# Altium footprint library Package_CSP.PcbLib: 178 footprints (part 5 of 12)
Each footprint in its own frame and in the unit in brackets; x right, y up, seen from the top. Pads: shape width x height; smd on the part's side, far side on the other; paste and mask are expansions set on the pad; w line width, h text height; cw(c..) or ccw(c..) is an arc to the next point about the centre after c.
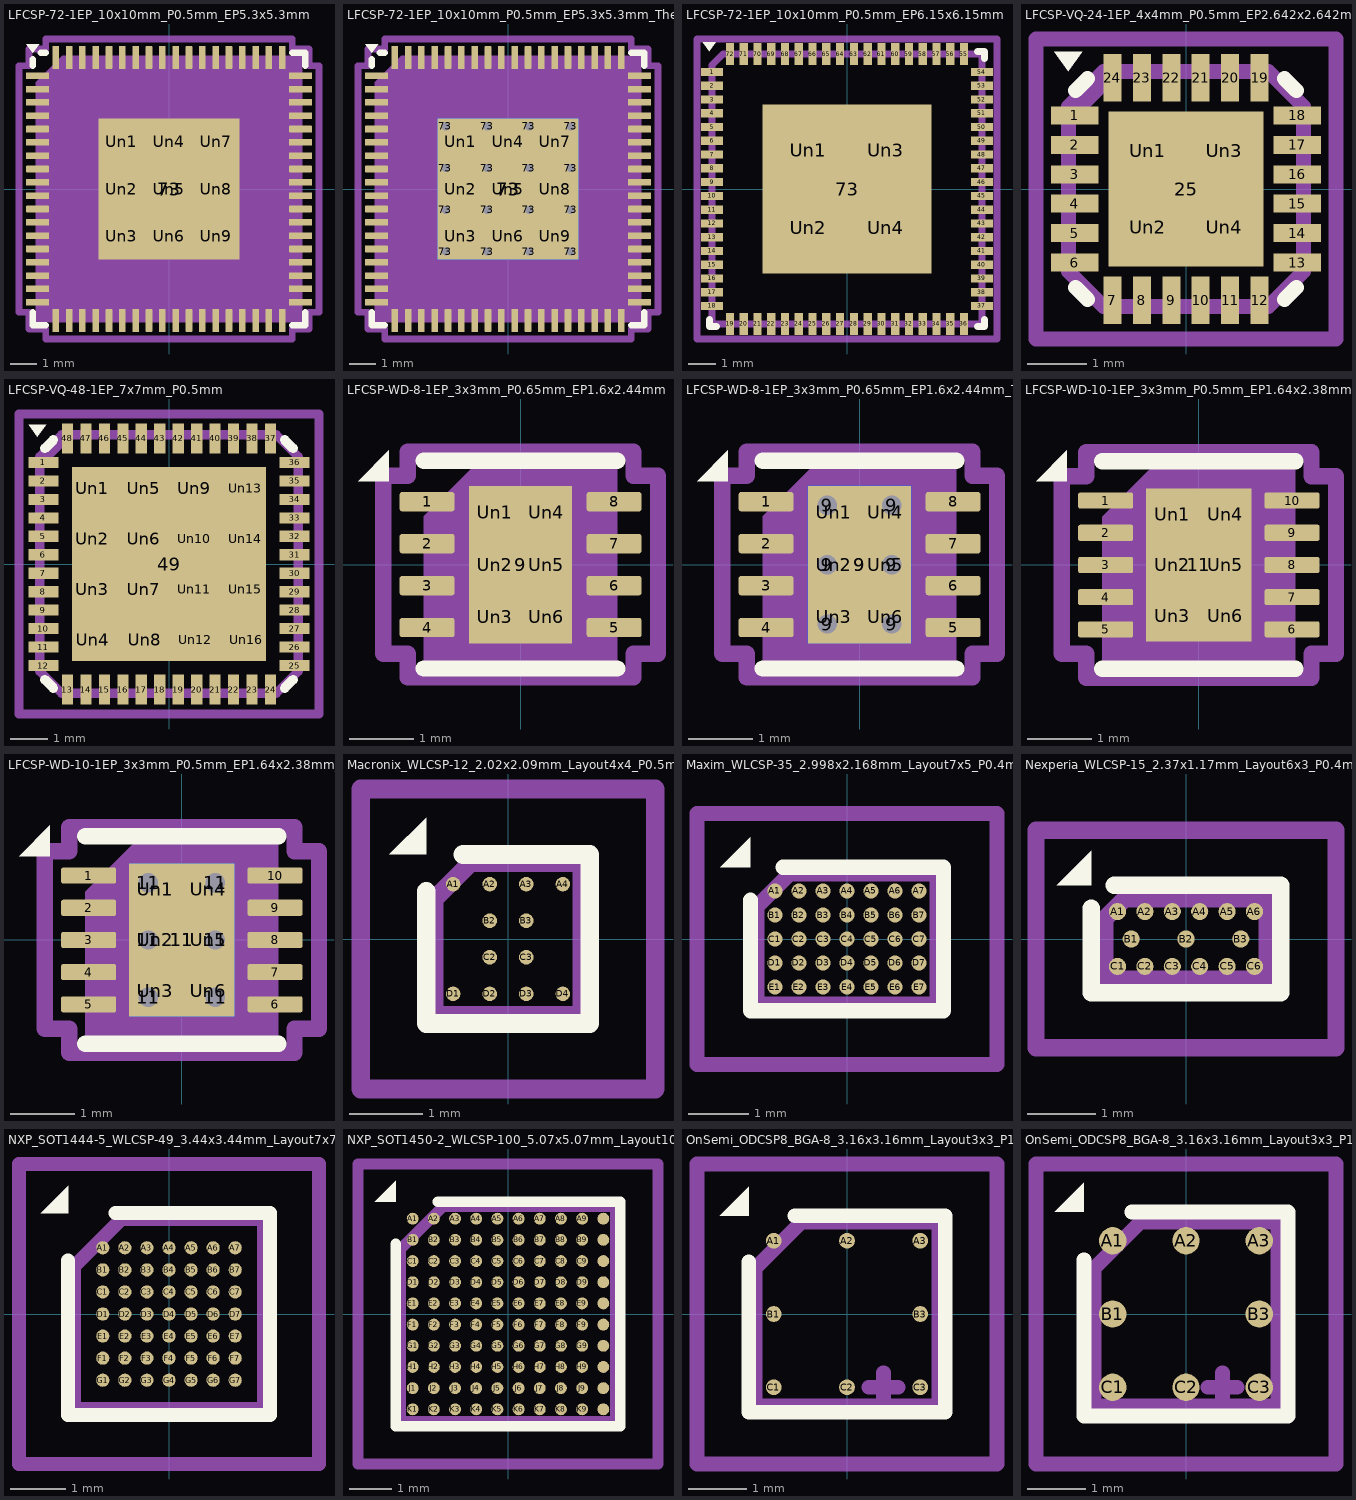
[diagram p4: the footprints below, top view; thin cyan lines are the x and y axes]

## LFCSP-72-1EP_10x10mm_P0.5mm_EP5.3x5.3mm [mm]
pads (82):
  rrect25% 0.875x0.25 smd: 1(-4.938,4.25) 2(-4.938,3.75) 3(-4.938,3.25) 4(-4.938,2.75) 5(-4.938,2.25) 6(-4.938,1.75) 7(-4.938,1.25) 8(-4.938,0.75) 9(-4.938,0.25) 10(-4.938,-0.25) 11(-4.938,-0.75) 12(-4.938,-1.25) 13(-4.938,-1.75) 14(-4.938,-2.25) 15(-4.938,-2.75) 16(-4.938,-3.25) 17(-4.938,-3.75) 18(-4.938,-4.25) 37(4.938,-4.25) 38(4.938,-3.75) 39(4.938,-3.25) 40(4.938,-2.75) 41(4.938,-2.25) 42(4.938,-1.75) 43(4.938,-1.25) 44(4.938,-0.75) 45(4.938,-0.25) 46(4.938,0.25) 47(4.938,0.75) 48(4.938,1.25) 49(4.938,1.75) 50(4.938,2.25) 51(4.938,2.75) 52(4.938,3.25) 53(4.938,3.75) 54(4.938,4.25)
  rrect25% 0.25x0.875 smd: 19(-4.25,-4.938) 20(-3.75,-4.938) 21(-3.25,-4.938) 22(-2.75,-4.938) 23(-2.25,-4.938) 24(-1.75,-4.938) 25(-1.25,-4.938) 26(-0.75,-4.938) 27(-0.25,-4.938) 28(0.25,-4.938) 29(0.75,-4.938) 30(1.25,-4.938) 31(1.75,-4.938) 32(2.25,-4.938) 33(2.75,-4.938) 34(3.25,-4.938) 35(3.75,-4.938) 36(4.25,-4.938) 55(4.25,4.938) 56(3.75,4.938) 57(3.25,4.938) 58(2.75,4.938) 59(2.25,4.938) 60(1.75,4.938) 61(1.25,4.938) 62(0.75,4.938) 63(0.25,4.938) 64(-0.25,4.938) 65(-0.75,4.938) 66(-1.25,4.938) 67(-1.75,4.938) 68(-2.25,4.938) 69(-2.75,4.938) 70(-3.25,4.938) 71(-3.75,4.938) 72(-4.25,4.938)
  rect 5.3x5.3 smd: 73(0,0)
  rrect18% 1.42x1.42 on Top Paste: Un1(-1.77,1.77) Un2(-1.77,0) Un3(-1.77,-1.77) Un4(0,1.77) Un5(0,0) Un6(0,-1.77) Un7(1.77,1.77) Un8(1.77,0) Un9(1.77,-1.77)
F.SilkS:
  region: -5.11,5.11 -5.35,5.44 -4.87,5.44
  lines w0.254: -5.11,-4.635 -5.11,-5.11 -4.635,-5.11 ; -5.11,4.635 -5.11,4.87 ; -4.81,5.11 -4.635,5.11 ; 4.635,-5.11 5.11,-5.11 5.11,-4.635 ; 4.635,5.11 5.11,5.11 5.11,4.635
Top Assembly:
  region: 5,-5 -5,-5 -5,4 -4,5 5,5
  text "'.Designator'" at -4.047,-0.84 h1
Top Courtyard:
  lines w0.254: -5.63,-4.63 -5.25,-4.63 -5.25,-5.25 -4.63,-5.25 -4.63,-5.63 4.63,-5.63 4.63,-5.25 5.25,-5.25 5.25,-4.63 5.63,-4.63 5.63,4.63 5.25,4.63 5.25,5.25 4.63,5.25 4.63,5.63 -4.63,5.63 -4.63,5.25 -5.25,5.25 -5.25,4.63 -5.63,4.63 -5.63,-4.63
Top Designator:
  text ".Designator" at -7.618,-0.508 h1.52

## LFCSP-72-1EP_10x10mm_P0.5mm_EP5.3x5.3mm_ThermalVias [mm]
pads (99):
  rrect25% 0.875x0.25 smd: 1(-4.938,4.25) 2(-4.938,3.75) 3(-4.938,3.25) 4(-4.938,2.75) 5(-4.938,2.25) 6(-4.938,1.75) 7(-4.938,1.25) 8(-4.938,0.75) 9(-4.938,0.25) 10(-4.938,-0.25) 11(-4.938,-0.75) 12(-4.938,-1.25) 13(-4.938,-1.75) 14(-4.938,-2.25) 15(-4.938,-2.75) 16(-4.938,-3.25) 17(-4.938,-3.75) 18(-4.938,-4.25) 37(4.938,-4.25) 38(4.938,-3.75) 39(4.938,-3.25) 40(4.938,-2.75) 41(4.938,-2.25) 42(4.938,-1.75) 43(4.938,-1.25) 44(4.938,-0.75) 45(4.938,-0.25) 46(4.938,0.25) 47(4.938,0.75) 48(4.938,1.25) 49(4.938,1.75) 50(4.938,2.25) 51(4.938,2.75) 52(4.938,3.25) 53(4.938,3.75) 54(4.938,4.25)
  rrect25% 0.25x0.875 smd: 19(-4.25,-4.938) 20(-3.75,-4.938) 21(-3.25,-4.938) 22(-2.75,-4.938) 23(-2.25,-4.938) 24(-1.75,-4.938) 25(-1.25,-4.938) 26(-0.75,-4.938) 27(-0.25,-4.938) 28(0.25,-4.938) 29(0.75,-4.938) 30(1.25,-4.938) 31(1.75,-4.938) 32(2.25,-4.938) 33(2.75,-4.938) 34(3.25,-4.938) 35(3.75,-4.938) 36(4.25,-4.938) 55(4.25,4.938) 56(3.75,4.938) 57(3.25,4.938) 58(2.75,4.938) 59(2.25,4.938) 60(1.75,4.938) 61(1.25,4.938) 62(0.75,4.938) 63(0.25,4.938) 64(-0.25,4.938) 65(-0.75,4.938) 66(-1.25,4.938) 67(-1.75,4.938) 68(-2.25,4.938) 69(-2.75,4.938) 70(-3.25,4.938) 71(-3.75,4.938) 72(-4.25,4.938)
  round 0.6 hole 0.3: 73(-2.35,-2.35) 73(-2.35,-0.783) 73(-2.35,0.783) 73(-2.35,2.35) 73(-0.783,-2.35) 73(-0.783,-0.783) 73(-0.783,0.783) 73(-0.783,2.35) 73(0.783,-2.35) 73(0.783,-0.783) 73(0.783,0.783) 73(0.783,2.35) 73(2.35,-2.35) 73(2.35,-0.783) 73(2.35,0.783) 73(2.35,2.35)
  rect 5.3x5.3 smd: 73(0,0)
  rect 5.3x5.3 smd far side: 73(0,0)
  rrect18% 1.42x1.42 on Top Paste: Un1(-1.77,1.77) Un2(-1.77,0) Un3(-1.77,-1.77) Un4(0,1.77) Un5(0,0) Un6(0,-1.77) Un7(1.77,1.77) Un8(1.77,0) Un9(1.77,-1.77)
F.SilkS:
  region: -5.11,5.11 -5.35,5.44 -4.87,5.44
  lines w0.254: -5.11,-4.635 -5.11,-5.11 -4.635,-5.11 ; -5.11,4.635 -5.11,4.87 ; -4.81,5.11 -4.635,5.11 ; 4.635,-5.11 5.11,-5.11 5.11,-4.635 ; 4.635,5.11 5.11,5.11 5.11,4.635
Top Assembly:
  region: 5,-5 -5,-5 -5,4 -4,5 5,5
  text "'.Designator'" at -4.047,-0.84 h1
Top Courtyard:
  lines w0.254: -5.63,-4.63 -5.25,-4.63 -5.25,-5.25 -4.63,-5.25 -4.63,-5.63 4.63,-5.63 4.63,-5.25 5.25,-5.25 5.25,-4.63 5.63,-4.63 5.63,4.63 5.25,4.63 5.25,5.25 4.63,5.25 4.63,5.63 -4.63,5.63 -4.63,5.25 -5.25,5.25 -5.25,4.63 -5.63,4.63 -5.63,-4.63
Top Designator:
  text ".Designator" at -7.618,-0.508 h1.52

## LFCSP-72-1EP_10x10mm_P0.5mm_EP6.15x6.15mm [mm]
pads (77):
  rect 0.8x0.3 smd: 1(-4.9,4.25) 2(-4.9,3.75) 3(-4.9,3.25) 4(-4.9,2.75) 5(-4.9,2.25) 6(-4.9,1.75) 7(-4.9,1.25) 8(-4.9,0.75) 9(-4.9,0.25) 10(-4.9,-0.25) 11(-4.9,-0.75) 12(-4.9,-1.25) 13(-4.9,-1.75) 14(-4.9,-2.25) 15(-4.9,-2.75) 16(-4.9,-3.25) 17(-4.9,-3.75) 18(-4.9,-4.25) 37(4.9,-4.25) 38(4.9,-3.75) 39(4.9,-3.25) 40(4.9,-2.75) 41(4.9,-2.25) 42(4.9,-1.75) 43(4.9,-1.25) 44(4.9,-0.75) 45(4.9,-0.25) 46(4.9,0.25) 47(4.9,0.75) 48(4.9,1.25) 49(4.9,1.75) 50(4.9,2.25) 51(4.9,2.75) 52(4.9,3.25) 53(4.9,3.75) 54(4.9,4.25)
  rect 0.3x0.8 smd: 19(-4.25,-4.9) 20(-3.75,-4.9) 21(-3.25,-4.9) 22(-2.75,-4.9) 23(-2.25,-4.9) 24(-1.75,-4.9) 25(-1.25,-4.9) 26(-0.75,-4.9) 27(-0.25,-4.9) 28(0.25,-4.9) 29(0.75,-4.9) 30(1.25,-4.9) 31(1.75,-4.9) 32(2.25,-4.9) 33(2.75,-4.9) 34(3.25,-4.9) 35(3.75,-4.9) 36(4.25,-4.9) 55(4.25,4.9) 56(3.75,4.9) 57(3.25,4.9) 58(2.75,4.9) 59(2.25,4.9) 60(1.75,4.9) 61(1.25,4.9) 62(0.75,4.9) 63(0.25,4.9) 64(-0.25,4.9) 65(-0.75,4.9) 66(-1.25,4.9) 67(-1.75,4.9) 68(-2.25,4.9) 69(-2.75,4.9) 70(-3.25,4.9) 71(-3.75,4.9) 72(-4.25,4.9)
  rect 6.15x6.15 smd: 73(0,0)
  rect 2.5x2.5 on Top Paste: Un1(-1.4,1.4) Un2(-1.4,-1.4) Un3(1.4,1.4) Un4(1.4,-1.4)
F.SilkS:
  region: -5,5.005 -5.24,5.335 -4.76,5.335
  lines w0.254: -5,-4.75 -5,-5 -4.75,-5 ; 4.75,-5 5,-5 5,-4.75 ; 4.75,5 5,5 5,4.75
Top Assembly:
  lines w0.254: -4.9,-4.9 4.9,-4.9 4.9,4.9 -4.5,4.9 -4.9,4.5 -4.9,-4.9
  text "'.Designator'" at -4.047,-0.84 h1
Top Courtyard:
  lines w0.254: -5.45,-5.45 5.45,-5.45 5.45,5.45 -5.45,5.45 -5.45,-5.45
Top Designator:
  text ".Designator" at -7.618,-0.508 h1.52

## LFCSP-VQ-24-1EP_4x4mm_P0.5mm_EP2.642x2.642mm [mm]
pads (29):
  rect 0.813x0.305 smd: 1(-1.893,1.25) 2(-1.893,0.75) 3(-1.893,0.25) 4(-1.893,-0.25) 5(-1.893,-0.75) 6(-1.893,-1.25) 13(1.893,-1.25) 14(1.893,-0.75) 15(1.893,-0.25) 16(1.893,0.25) 17(1.893,0.75) 18(1.893,1.25)
  rect 0.305x0.813 smd: 7(-1.25,-1.893) 8(-0.75,-1.893) 9(-0.25,-1.893) 10(0.25,-1.893) 11(0.75,-1.893) 12(1.25,-1.893) 19(1.25,1.893) 20(0.75,1.893) 21(0.25,1.893) 22(-0.25,1.893) 23(-0.75,1.893) 24(-1.25,1.893)
  rect 2.642x2.642 smd: 25(0,0)
  rect 1.05x1.05 on Top Paste: Un1(-0.65,0.65) Un2(-0.65,-0.65) Un3(0.65,0.65) Un4(0.65,-0.65)
F.SilkS:
  region: -2,2 -2.24,2.33 -1.76,2.33
  lines w0.254: -1.875,-1.675 -1.675,-1.875 ; -1.875,1.675 -1.675,1.875 ; 1.675,-1.875 1.875,-1.675 ; 1.675,1.875 1.875,1.675
Top Assembly:
  lines w0.254: -2,1.2 -1.2,2 ; -2,-1.4 -1.4,-2 1.4,-2 2,-1.4 2,1.4 1.4,2 -1.4,2 -2,1.4 -2,-1.4
  text "'.Designator'" at -4.047,-0.84 h1
Top Courtyard:
  lines w0.254: -2.55,-2.55 2.55,-2.55 2.55,2.55 -2.55,2.55 -2.55,-2.55
Top Designator:
  text ".Designator" at -7.768,-0.508 h1.52

## LFCSP-VQ-48-1EP_7x7mm_P0.5mm [mm]
pads (65):
  rect 0.81x0.3 smd: 1(-3.4,2.75) 2(-3.4,2.25) 3(-3.4,1.75) 4(-3.4,1.25) 5(-3.4,0.75) 6(-3.4,0.25) 7(-3.4,-0.25) 8(-3.4,-0.75) 9(-3.4,-1.25) 10(-3.4,-1.75) 11(-3.4,-2.25) 12(-3.4,-2.75) 25(3.4,-2.75) 26(3.4,-2.25) 27(3.4,-1.75) 28(3.4,-1.25) 29(3.4,-0.75) 30(3.4,-0.25) 31(3.4,0.25) 32(3.4,0.75) 33(3.4,1.25) 34(3.4,1.75) 35(3.4,2.25) 36(3.4,2.75)
  rect 0.3x0.81 smd: 13(-2.75,-3.4) 14(-2.25,-3.4) 15(-1.75,-3.4) 16(-1.25,-3.4) 17(-0.75,-3.4) 18(-0.25,-3.4) 19(0.25,-3.4) 20(0.75,-3.4) 21(1.25,-3.4) 22(1.75,-3.4) 23(2.25,-3.4) 24(2.75,-3.4) 37(2.75,3.4) 38(2.25,3.4) 39(1.75,3.4) 40(1.25,3.4) 41(0.75,3.4) 42(0.25,3.4) 43(-0.25,3.4) 44(-0.75,3.4) 45(-1.25,3.4) 46(-1.75,3.4) 47(-2.25,3.4) 48(-2.75,3.4)
  rect 5.26x5.26 smd: 49(0,0)
  rrect23% 1.1x1.1 on Top Paste: Un1(-2.08,2.05) Un2(-2.08,0.68) Un3(-2.08,-0.69) Un4(-2.06,-2.05) Un5(-0.68,2.05) Un6(-0.68,0.68) Un7(-0.68,-0.69) Un8(-0.66,-2.05) Un9(0.69,2.05) Un10(0.69,0.68) Un11(0.69,-0.69) Un12(0.71,-2.05) Un13(2.07,2.05) Un14(2.07,0.68) Un15(2.07,-0.69) Un16(2.09,-2.05)
F.SilkS:
  region: -3.56,3.44 -3.8,3.77 -3.32,3.77
  lines w0.254: -3.36,-3.13 -3.13,-3.36 ; -3.36,3.13 -3.13,3.36 ; 3.13,-3.36 3.36,-3.13 ; 3.13,3.36 3.36,3.13
Top Assembly:
  lines w0.254: -3.5,2.7 -2.7,3.5 ; -3.5,-2.9 -2.9,-3.5 2.9,-3.5 3.5,-2.9 3.5,2.9 2.9,3.5 -2.9,3.5 -3.5,2.9 -3.5,-2.9
  text "'.Designator'" at -4.047,-0.84 h1
Top Courtyard:
  lines w0.254: -4.06,-4.06 4.06,-4.06 4.06,4.06 -4.06,4.06 -4.06,-4.06
Top Designator:
  text ".Designator" at -7.622,-0.508 h1.52

## LFCSP-WD-8-1EP_3x3mm_P0.65mm_EP1.6x2.44mm [mm]
pads (15):
  rrect25% 0.85x0.3 smd: 1(-1.45,0.975) 2(-1.45,0.325) 3(-1.45,-0.325) 4(-1.45,-0.975) 5(1.45,-0.975) 6(1.45,-0.325) 7(1.45,0.325) 8(1.45,0.975)
  rect 1.6x2.44 smd: 9(0,0)
  rrect25% 0.64x0.66 on Top Paste: Un1(-0.4,0.81) Un2(-0.4,0) Un3(-0.4,-0.81) Un4(0.4,0.81) Un5(0.4,0) Un6(0.4,-0.81)
F.SilkS:
  region: -2.04,1.29 -2.52,1.29 -2.04,1.77
  lines w0.254: -1.5,-1.61 1.5,-1.61 ; -1.5,1.61 1.5,1.61
Top Assembly:
  region: 1.5,-1.5 -1.5,-1.5 -1.5,0.75 -0.75,1.5 1.5,1.5
  text "'.Designator'" at -3.033,-0.628 h0.75
Top Courtyard:
  lines w0.254: -2.13,-1.38 -1.75,-1.38 -1.75,-1.75 1.75,-1.75 1.75,-1.38 2.13,-1.38 2.13,1.38 1.75,1.38 1.75,1.75 -1.75,1.75 -1.75,1.38 -2.13,1.38 -2.13,-1.38
Top Designator:
  text ".Designator" at -7.728,-0.508 h1.52

## LFCSP-WD-8-1EP_3x3mm_P0.65mm_EP1.6x2.44mm_ThermalVias [mm]
pads (22):
  rrect25% 0.85x0.3 smd: 1(-1.45,0.975) 2(-1.45,0.325) 3(-1.45,-0.325) 4(-1.45,-0.975) 5(1.45,-0.975) 6(1.45,-0.325) 7(1.45,0.325) 8(1.45,0.975)
  round 0.6 hole 0.3: 9(-0.5,-0.92) 9(-0.5,0) 9(-0.5,0.92) 9(0.5,-0.92) 9(0.5,0) 9(0.5,0.92)
  rect 1.6x2.44 smd: 9(0,0)
  rect 1.6x2.44 smd far side: 9(0,0)
  rrect25% 0.64x0.66 on Top Paste: Un1(-0.4,0.81) Un2(-0.4,0) Un3(-0.4,-0.81) Un4(0.4,0.81) Un5(0.4,0) Un6(0.4,-0.81)
F.SilkS:
  region: -2.04,1.29 -2.52,1.29 -2.04,1.77
  lines w0.254: -1.5,-1.61 1.5,-1.61 ; -1.5,1.61 1.5,1.61
Top Assembly:
  region: 1.5,-1.5 -1.5,-1.5 -1.5,0.75 -0.75,1.5 1.5,1.5
  text "'.Designator'" at -3.033,-0.628 h0.75
Top Courtyard:
  lines w0.254: -2.13,-1.38 -1.75,-1.38 -1.75,-1.75 1.75,-1.75 1.75,-1.38 2.13,-1.38 2.13,1.38 1.75,1.38 1.75,1.75 -1.75,1.75 -1.75,1.38 -2.13,1.38 -2.13,-1.38
Top Designator:
  text ".Designator" at -7.728,-0.508 h1.52

## LFCSP-WD-10-1EP_3x3mm_P0.5mm_EP1.64x2.38mm [mm]
pads (17):
  rrect25% 0.855x0.25 smd: 1(-1.448,1) 2(-1.448,0.5) 3(-1.448,0) 4(-1.448,-0.5) 5(-1.448,-1) 6(1.448,-1) 7(1.448,-0.5) 8(1.448,0) 9(1.448,0.5) 10(1.448,1)
  rect 1.64x2.38 smd: 11(0,0)
  rrect25% 0.66x0.64 on Top Paste: Un1(-0.41,0.79) Un2(-0.41,0) Un3(-0.41,-0.79) Un4(0.41,0.79) Un5(0.41,0) Un6(0.41,-0.79)
F.SilkS:
  region: -2.05,1.3 -2.53,1.3 -2.05,1.78
  lines w0.254: -1.5,-1.61 1.5,-1.61 ; -1.5,1.61 1.5,1.61
Top Assembly:
  region: 1.5,-1.5 -1.5,-1.5 -1.5,0.75 -0.75,1.5 1.5,1.5
  text "'.Designator'" at -3.033,-0.628 h0.75
Top Courtyard:
  lines w0.254: -2.13,-1.38 -1.75,-1.38 -1.75,-1.75 1.75,-1.75 1.75,-1.38 2.13,-1.38 2.13,1.38 1.75,1.38 1.75,1.75 -1.75,1.75 -1.75,1.38 -2.13,1.38 -2.13,-1.38
Top Designator:
  text ".Designator" at -7.728,-0.508 h1.52

## LFCSP-WD-10-1EP_3x3mm_P0.5mm_EP1.64x2.38mm_ThermalVias [mm]
pads (24):
  rrect25% 0.855x0.25 smd: 1(-1.448,1) 2(-1.448,0.5) 3(-1.448,0) 4(-1.448,-0.5) 5(-1.448,-1) 6(1.448,-1) 7(1.448,-0.5) 8(1.448,0) 9(1.448,0.5) 10(1.448,1)
  round 0.6 hole 0.3: 11(-0.52,-0.89) 11(-0.52,0) 11(-0.52,0.89) 11(0.52,-0.89) 11(0.52,0) 11(0.52,0.89)
  rect 1.64x2.38 smd: 11(0,0)
  rect 1.64x2.38 smd far side: 11(0,0)
  rrect25% 0.71x0.69 on Top Paste: Un1(-0.41,0.79) Un2(-0.41,0) Un3(-0.41,-0.79) Un4(0.41,0.79) Un5(0.41,0) Un6(0.41,-0.79)
F.SilkS:
  region: -2.05,1.3 -2.53,1.3 -2.05,1.78
  lines w0.254: -1.5,-1.61 1.5,-1.61 ; -1.5,1.61 1.5,1.61
Top Assembly:
  region: 1.5,-1.5 -1.5,-1.5 -1.5,0.75 -0.75,1.5 1.5,1.5
  text "'.Designator'" at -3.033,-0.628 h0.75
Top Courtyard:
  lines w0.254: -2.13,-1.38 -1.75,-1.38 -1.75,-1.75 1.75,-1.75 1.75,-1.38 2.13,-1.38 2.13,1.38 1.75,1.38 1.75,1.75 -1.75,1.75 -1.75,1.38 -2.13,1.38 -2.13,-1.38
Top Designator:
  text ".Designator" at -7.728,-0.508 h1.52

## Macronix_WLCSP-12_2.02x2.09mm_Layout4x4_P0.5mm [mm]
pads (12):
  round 0.2 smd: A1(-0.75,0.75) A2(-0.25,0.75) A3(0.25,0.75) A4(0.75,0.75) B2(-0.25,0.25) B3(0.25,0.25) C2(-0.25,-0.25) C3(0.25,-0.25) D1(-0.75,-0.75) D2(-0.25,-0.75) D3(0.25,-0.75) D4(0.75,-0.75)
F.SilkS:
  region: -1.12,1.155 -1.62,1.155 -1.12,1.655
  lines w0.254: -1.12,0.65 -1.12,-1.155 1.12,-1.155 1.12,1.155 -0.615,1.155
Top Assembly:
  lines w0.254: -1.01,-1.045 1.01,-1.045 1.01,1.045 -0.505,1.045 -1.01,0.54 -1.01,-1.045
  text "'.Designator'" at -0.412,1.983 h0.49
Top Courtyard:
  lines w0.254: -2.01,-2.05 2.01,-2.05 2.01,2.05 -2.01,2.05 -2.01,-2.05
Top Designator:
  text ".Designator" at -7.618,-0.508 h1.52

## Maxim_WLCSP-35_2.998x2.168mm_Layout7x5_P0.4mm [mm]
pads (35):
  round 0.25 smd: A1(-1.2,0.8) A2(-0.8,0.8) A3(-0.4,0.8) A4(0,0.8) A5(0.4,0.8) A6(0.8,0.8) A7(1.2,0.8) B1(-1.2,0.4) B2(-0.8,0.4) B3(-0.4,0.4) B4(0,0.4) B5(0.4,0.4) B6(0.8,0.4) B7(1.2,0.4) C1(-1.2,0) C2(-0.8,0) C3(-0.4,0) C4(0,0) C5(0.4,0) C6(0.8,0) C7(1.2,0) D1(-1.2,-0.4) D2(-0.8,-0.4) D3(-0.4,-0.4) D4(0,-0.4) D5(0.4,-0.4) D6(0.8,-0.4) D7(1.2,-0.4) E1(-1.2,-0.8) E2(-0.8,-0.8) E3(-0.4,-0.8) E4(0,-0.8) E5(0.4,-0.8) E6(0.8,-0.8) E7(1.2,-0.8)
F.SilkS:
  region: -1.609,1.194 -2.109,1.194 -1.609,1.694
  lines w0.254: -1.609,0.652 -1.609,-1.194 1.609,-1.194 1.609,1.194 -1.067,1.194
Top Assembly:
  lines w0.254: -1.499,-1.084 1.499,-1.084 1.499,1.084 -0.957,1.084 -1.499,0.542 -1.499,-1.084
  text "'.Designator'" at -2.833,-0.588 h0.7
Top Courtyard:
  lines w0.254: -2.5,-2.09 2.5,-2.09 2.5,2.09 -2.5,2.09 -2.5,-2.09
Top Designator:
  text ".Designator" at -7.723,-0.508 h1.52

## Nexperia_WLCSP-15_2.37x1.17mm_Layout6x3_P0.4mmP0.8mm [mm]
pads (15):
  round 0.25 smd: A1(-1,0.4) A2(-0.6,0.4) A3(-0.2,0.4) A4(0.2,0.4) A5(0.6,0.4) A6(1,0.4) B1(-0.8,0) B2(0,0) B3(0.8,0) C1(-1,-0.4) C2(-0.6,-0.4) C3(-0.2,-0.4) C4(0.2,-0.4) C5(0.6,-0.4) C6(1,-0.4)
F.SilkS:
  region: -1.385,0.785 -1.885,0.785 -1.385,1.285
  lines w0.254: -1.385,0.447 -1.385,-0.785 1.385,-0.785 1.385,0.785 -1.048,0.785
Top Assembly:
  lines w0.254: -1.185,-0.585 1.185,-0.585 1.185,0.585 -0.893,0.585 -1.185,0.292 -1.185,-0.585
  text "'.Designator'" at -2.226,-0.462 h0.55
Top Courtyard:
  lines w0.254: -2.19,-1.59 2.19,-1.59 2.19,1.59 -2.19,1.59 -2.19,-1.59
Top Designator:
  text ".Designator" at -7.618,-0.508 h1.52

## NXP_SOT1444-5_WLCSP-49_3.44x3.44mm_Layout7x7_P0.4mm [mm]
pads (49):
  round 0.24 smd: A1(-1.2,1.2) A2(-0.8,1.2) A3(-0.4,1.2) A4(0,1.2) A5(0.4,1.2) A6(0.8,1.2) A7(1.2,1.2) B1(-1.2,0.8) B2(-0.8,0.8) B3(-0.4,0.8) B4(0,0.8) B5(0.4,0.8) B6(0.8,0.8) B7(1.2,0.8) C1(-1.2,0.4) C2(-0.8,0.4) C3(-0.4,0.4) C4(0,0.4) C5(0.4,0.4) C6(0.8,0.4) C7(1.2,0.4) D1(-1.2,0) D2(-0.8,0) D3(-0.4,0) D4(0,0) D5(0.4,0) D6(0.8,0) D7(1.2,0) E1(-1.2,-0.4) E2(-0.8,-0.4) E3(-0.4,-0.4) E4(0,-0.4) E5(0.4,-0.4) E6(0.8,-0.4) E7(1.2,-0.4) F1(-1.2,-0.8) F2(-0.8,-0.8) F3(-0.4,-0.8) F4(0,-0.8) F5(0.4,-0.8) F6(0.8,-0.8) F7(1.2,-0.8) G1(-1.2,-1.2) G2(-0.8,-1.2) G3(-0.4,-1.2) G4(0,-1.2) G5(0.4,-1.2) G6(0.8,-1.2) G7(1.2,-1.2)
F.SilkS:
  region: -1.83,1.83 -2.33,1.83 -1.83,2.33
  lines w0.254: -1.83,0.97 -1.83,-1.83 1.83,-1.83 1.83,1.83 -0.97,1.83
Top Assembly:
  lines w0.254: -1.72,-1.72 1.72,-1.72 1.72,1.72 -0.86,1.72 -1.72,0.86 -1.72,-1.72
  text "'.Designator'" at -3.237,-0.672 h0.8
Top Courtyard:
  lines w0.254: -2.72,-2.72 2.72,-2.72 2.72,2.72 -2.72,2.72 -2.72,-2.72
Top Designator:
  text ".Designator" at -7.738,-0.508 h1.52

## NXP_SOT1450-2_WLCSP-100_5.07x5.07mm_Layout10x10_P0.5mm [mm]
pads (100):
  round 0.28 smd: A1(-2.25,2.25) A2(-1.75,2.25) A3(-1.25,2.25) A4(-0.75,2.25) A5(-0.25,2.25) A6(0.25,2.25) A7(0.75,2.25) A8(1.25,2.25) A9(1.75,2.25) A10(2.25,2.25) B1(-2.25,1.75) B2(-1.75,1.75) B3(-1.25,1.75) B4(-0.75,1.75) B5(-0.25,1.75) B6(0.25,1.75) B7(0.75,1.75) B8(1.25,1.75) B9(1.75,1.75) B10(2.25,1.75) C1(-2.25,1.25) C2(-1.75,1.25) C3(-1.25,1.25) C4(-0.75,1.25) C5(-0.25,1.25) C6(0.25,1.25) C7(0.75,1.25) C8(1.25,1.25) C9(1.75,1.25) C10(2.25,1.25) D1(-2.25,0.75) D2(-1.75,0.75) D3(-1.25,0.75) D4(-0.75,0.75) D5(-0.25,0.75) D6(0.25,0.75) D7(0.75,0.75) D8(1.25,0.75) D9(1.75,0.75) D10(2.25,0.75) E1(-2.25,0.25) E2(-1.75,0.25) E3(-1.25,0.25) E4(-0.75,0.25) E5(-0.25,0.25) E6(0.25,0.25) E7(0.75,0.25) E8(1.25,0.25) E9(1.75,0.25) E10(2.25,0.25) F1(-2.25,-0.25) F2(-1.75,-0.25) F3(-1.25,-0.25) F4(-0.75,-0.25) F5(-0.25,-0.25) F6(0.25,-0.25) F7(0.75,-0.25) F8(1.25,-0.25) F9(1.75,-0.25) F10(2.25,-0.25) G1(-2.25,-0.75) G2(-1.75,-0.75) G3(-1.25,-0.75) G4(-0.75,-0.75) G5(-0.25,-0.75) G6(0.25,-0.75) G7(0.75,-0.75) G8(1.25,-0.75) G9(1.75,-0.75) G10(2.25,-0.75) H1(-2.25,-1.25) H2(-1.75,-1.25) H3(-1.25,-1.25) H4(-0.75,-1.25) H5(-0.25,-1.25) H6(0.25,-1.25) H7(0.75,-1.25) H8(1.25,-1.25) H9(1.75,-1.25) H10(2.25,-1.25) J1(-2.25,-1.75) J2(-1.75,-1.75) J3(-1.25,-1.75) J4(-0.75,-1.75) J5(-0.25,-1.75) J6(0.25,-1.75) J7(0.75,-1.75) J8(1.25,-1.75) J9(1.75,-1.75) J10(2.25,-1.75) K1(-2.25,-2.25) K2(-1.75,-2.25) K3(-1.25,-2.25) K4(-0.75,-2.25) K5(-0.25,-2.25) K6(0.25,-2.25) K7(0.75,-2.25) K8(1.25,-2.25) K9(1.75,-2.25) K10(2.25,-2.25)
F.SilkS:
  region: -2.65,2.65 -3.15,2.65 -2.65,3.15
  lines w0.254: -2.65,1.65 -2.65,-2.65 2.65,-2.65 2.65,2.65 -1.65,2.65
Top Assembly:
  lines w0.254: -2.535,-2.535 2.535,-2.535 2.535,2.535 -1.535,2.535 -2.535,1.535 -2.535,-2.535
  text "'.Designator'" at -4.047,-0.84 h1
Top Courtyard:
  lines w0.254: -3.54,-3.54 3.54,-3.54 3.54,3.54 -3.54,3.54 -3.54,-3.54
Top Designator:
  text ".Designator" at -7.768,-0.508 h1.52

## OnSemi_ODCSP8_BGA-8_3.16x3.16mm_Layout3x3_P1.26mm [mm]
pads (8):
  round 0.27 smd: A1(-1.26,1.26) A2(0,1.26) A3(1.26,1.26) B1(-1.26,0) B3(1.26,0) C1(-1.26,-1.26) C2(0,-1.26) C3(1.26,-1.26)
F.SilkS:
  region: -1.69,1.69 -2.19,1.69 -1.69,2.19
  lines w0.254: -1.69,0.9 -1.69,-1.69 1.69,-1.69 1.69,1.69 -0.9,1.69
Top Assembly:
  lines w0.254: -1.58,-1.58 1.58,-1.58 1.58,1.58 -0.79,1.58 -1.58,0.79 -1.58,-1.58
  text "'.Designator'" at -2.954,-0.613 h0.73
Top Courtyard:
  lines w0.254: -2.58,-2.58 2.58,-2.58 2.58,2.58 -2.58,2.58 -2.58,-2.58
Top Designator:
  text ".Designator" at -7.727,-0.508 h1.52
Cmts.User:
  lines w0.254: 0.38,-1.26 0.88,-1.26 ; 0.63,-1.51 0.63,-1.01

## OnSemi_ODCSP8_BGA-8_3.16x3.16mm_Layout3x3_P1.26mm_ManualAssembly [mm]
pads (8):
  round 0.47 smd: A1(-1.26,1.26) A2(0,1.26) A3(1.26,1.26) B1(-1.26,0) B3(1.26,0) C1(-1.26,-1.26) C2(0,-1.26) C3(1.26,-1.26)
F.SilkS:
  region: -1.755,1.755 -2.255,1.755 -1.755,2.255
  lines w0.254: -1.755,0.933 -1.755,-1.755 1.755,-1.755 1.755,1.755 -0.933,1.755
Top Assembly:
  lines w0.254: -1.58,-1.58 1.58,-1.58 1.58,1.58 -0.79,1.58 -1.58,0.79 -1.58,-1.58
  text "'.Designator'" at -2.954,-0.613 h0.73
Top Courtyard:
  lines w0.254: -2.58,-2.58 2.58,-2.58 2.58,2.58 -2.58,2.58 -2.58,-2.58
Top Designator:
  text ".Designator" at -7.727,-0.508 h1.52
Cmts.User:
  lines w0.254: 0.38,-1.26 0.88,-1.26 ; 0.63,-1.51 0.63,-1.01